# Altium schematic symbol library ZENER.SchLib: 1 symbol
Pins are listed as number, name and electrical type; pins without a type are passive.

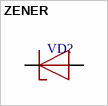
[diagram p0: symbol ZENER]

## ZENER
designator VD?
footprint DO-214AA
footprint DO-41
footprint DO-35
footprint SOD128
footprint SOD-80
footprint DO-221AC, SMA
footprint SOD-123
footprint DO-017AA
footprint DO-201
footprint DIODE_R6
footprint DO-214BA
footprint DO-214AB
footprint DO-214BA
pins: 1 C, 2 A